# EAGLE library part 1365-42 (library EW_Connectors)
DUAL ROW STRAIGHT HEADER 1364 SERIES. 1.27mm x 1.27mm. Without Fixing Post. SMT Source: http://www.leotronics.co.uk/Conexcon/Data%20Sheets/sec.%20A/1364ing.pdf
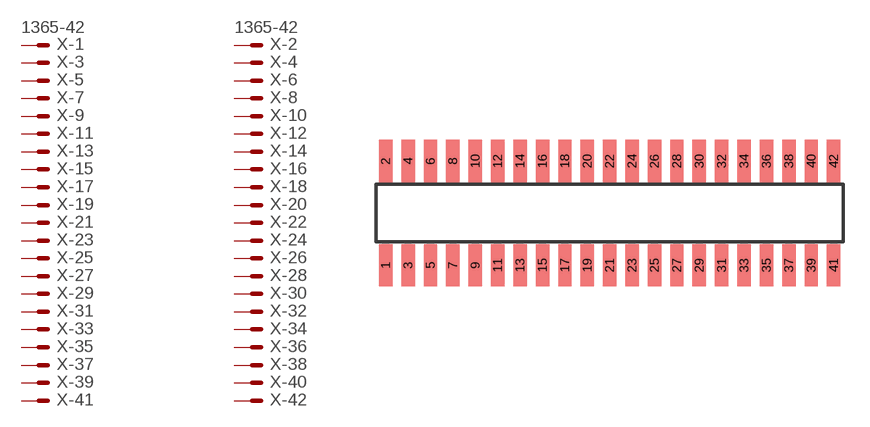
[diagram p72: symbol with the pads of 1365-42; footprint 1365-42]

Designator prefix X; gates -1=MVAL-5 -2=MVAL-5 -3=M-8 -4=M-8 -5=M-8 -6=M-8 -7=M-8 -8=M-8 -9=M-8 -10=M-8 -11=M-8 -12=M-8 -13=M-8 -14=M-8 -15=M-8 -16=M-8 -17=M-8 -18=M-8 -19=M-8 -20=M-8 -21=M-8 -22=M-8 -23=M-8 -24=M-8 -25=M-8 -26=M-8 -27=M-8 -28=M-8 -29=M-8 -30=M-8 -31=M-8 -32=M-8 -33=M-8 -34=M-8 -35=M-8 -36=M-8 -37=M-8 -38=M-8 -39=M-8 -40=M-8 -41=M-8 -42=M-8

## 1365-42 (OC_FARNELL: unknown; OC_NEWARK: unknown)  [1365-42]
1  -1:S  pas
2  -2:S  pas
3  -3:S  pas
4  -4:S  pas
5  -5:S  pas
6  -6:S  pas
7  -7:S  pas
8  -8:S  pas
9  -9:S  pas
10  -10:S  pas
11  -11:S  pas
12  -12:S  pas
13  -13:S  pas
14  -14:S  pas
15  -15:S  pas
16  -16:S  pas
17  -17:S  pas
18  -18:S  pas
19  -19:S  pas
20  -20:S  pas
21  -21:S  pas
22  -22:S  pas
23  -23:S  pas
24  -24:S  pas
25  -25:S  pas
26  -26:S  pas
27  -27:S  pas
28  -28:S  pas
29  -29:S  pas
30  -30:S  pas
31  -31:S  pas
32  -32:S  pas
33  -33:S  pas
34  -34:S  pas
35  -35:S  pas
36  -36:S  pas
37  -37:S  pas
38  -38:S  pas
39  -39:S  pas
40  -40:S  pas
41  -41:S  pas
42  -42:S  pas

## Footprint 1365-42 (pad centres in mm)
DUAL ROW STRAIGHT HEADER 1364 SERIES. 1.27mm x 1.27mm. Without Fixing Post. SMT Source: http://www.leotronics.co.uk/Conexcon/Data%20Sheets/sec.%20A/1364ing.pdf
smd 0.76 x 2.4: 1 -12.7,-2.95; 2 -12.7,2.95; 3 -11.43,-2.95; 4 -11.43,2.95; 5 -10.16,-2.95; 6 -10.16,2.95; 7 -8.89,-2.95; 8 -8.89,2.95; 9 -7.62,-2.95; 10 -7.62,2.95; 11 -6.35,-2.95; 12 -6.35,2.95; 13 -5.08,-2.95; 14 -5.08,2.95; 15 -3.81,-2.95; 16 -3.81,2.95; 17 -2.54,-2.95; 18 -2.54,2.95; 19 -1.27,-2.95; 20 -1.27,2.95; 21 0,-2.95; 22 0,2.95; 23 1.27,-2.95; 24 1.27,2.95; 25 2.54,-2.95; 26 2.54,2.95; 27 3.81,-2.95; 28 3.81,2.95; 29 5.08,-2.95; 30 5.08,2.95; 31 6.35,-2.95; 32 6.35,2.95; 33 7.62,-2.95; 34 7.62,2.95; 35 8.89,-2.95; 36 8.89,2.95; 37 10.16,-2.95; 38 10.16,2.95; 39 11.43,-2.95; 40 11.43,2.95; 41 12.7,-2.95; 42 12.7,2.95